# EAGLE library part LT1713 (library NMR-relaxometry)
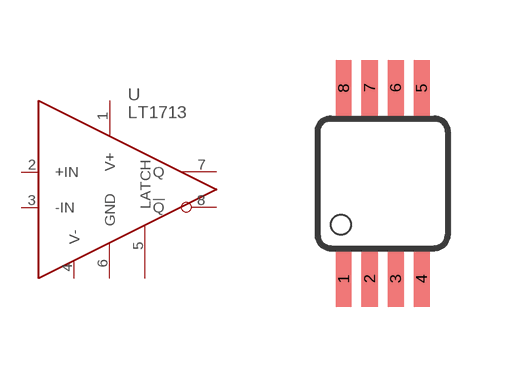
[diagram p9: symbol with the pads of MSOP-8; footprint MSOP-8]

Designator prefix -

## LT1713  [MSOP-8]
1  V+  pwr
2  +IN  in
3  -IN  in
4  V-  pwr
5  LATCH  in
6  GND  pwr
7  Q  out
8  !Q  out

## Footprint MSOP-8 (pad centres in mm)
smd 0.4 x 1.397: 1 -0.976,-2.39; 2 -0.326,-2.39; 3 0.324,-2.39; 4 0.974,-2.39; 5 0.974,2.389; 6 0.324,2.389; 7 -0.326,2.389; 8 -0.976,2.389